# Altium schematic symbol library Schlib1.SchLib: 1 symbol
Pins are listed as number, name and electrical type; pins without a type are passive.

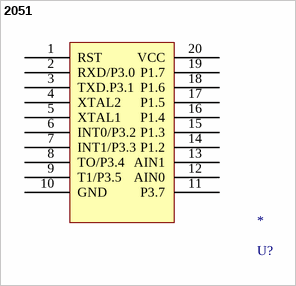
[diagram p0: symbol 2051]

## 2051
designator *, comment U?
pins: 1 RST, 2 RXD/P3.0, 3 TXD.P3.1, 4 XTAL2, 5 XTAL1, 6 INT0/P3.2, 7 INT1/P3.3, 8 TO/P3.4, 9 T1/P3.5, 10 GND, 11 P3.7, 12 AIN0, 13 AIN1, 14 P1.2, 15 P1.3, 16 P1.4, 17 P1.5, 18 P1.6, 19 P1.7, 20 VCC